# Altium footprint library Udemy_Library.PcbLib: 35 footprints (part 2 of 3)
Each footprint in its own frame and in the unit in brackets; x right, y up, seen from the top. Pads: shape width x height; smd on the part's side, far side on the other; paste and mask are expansions set on the pad; w line width, h text height; cw(c..) or ccw(c..) is an arc to the next point about the centre after c.
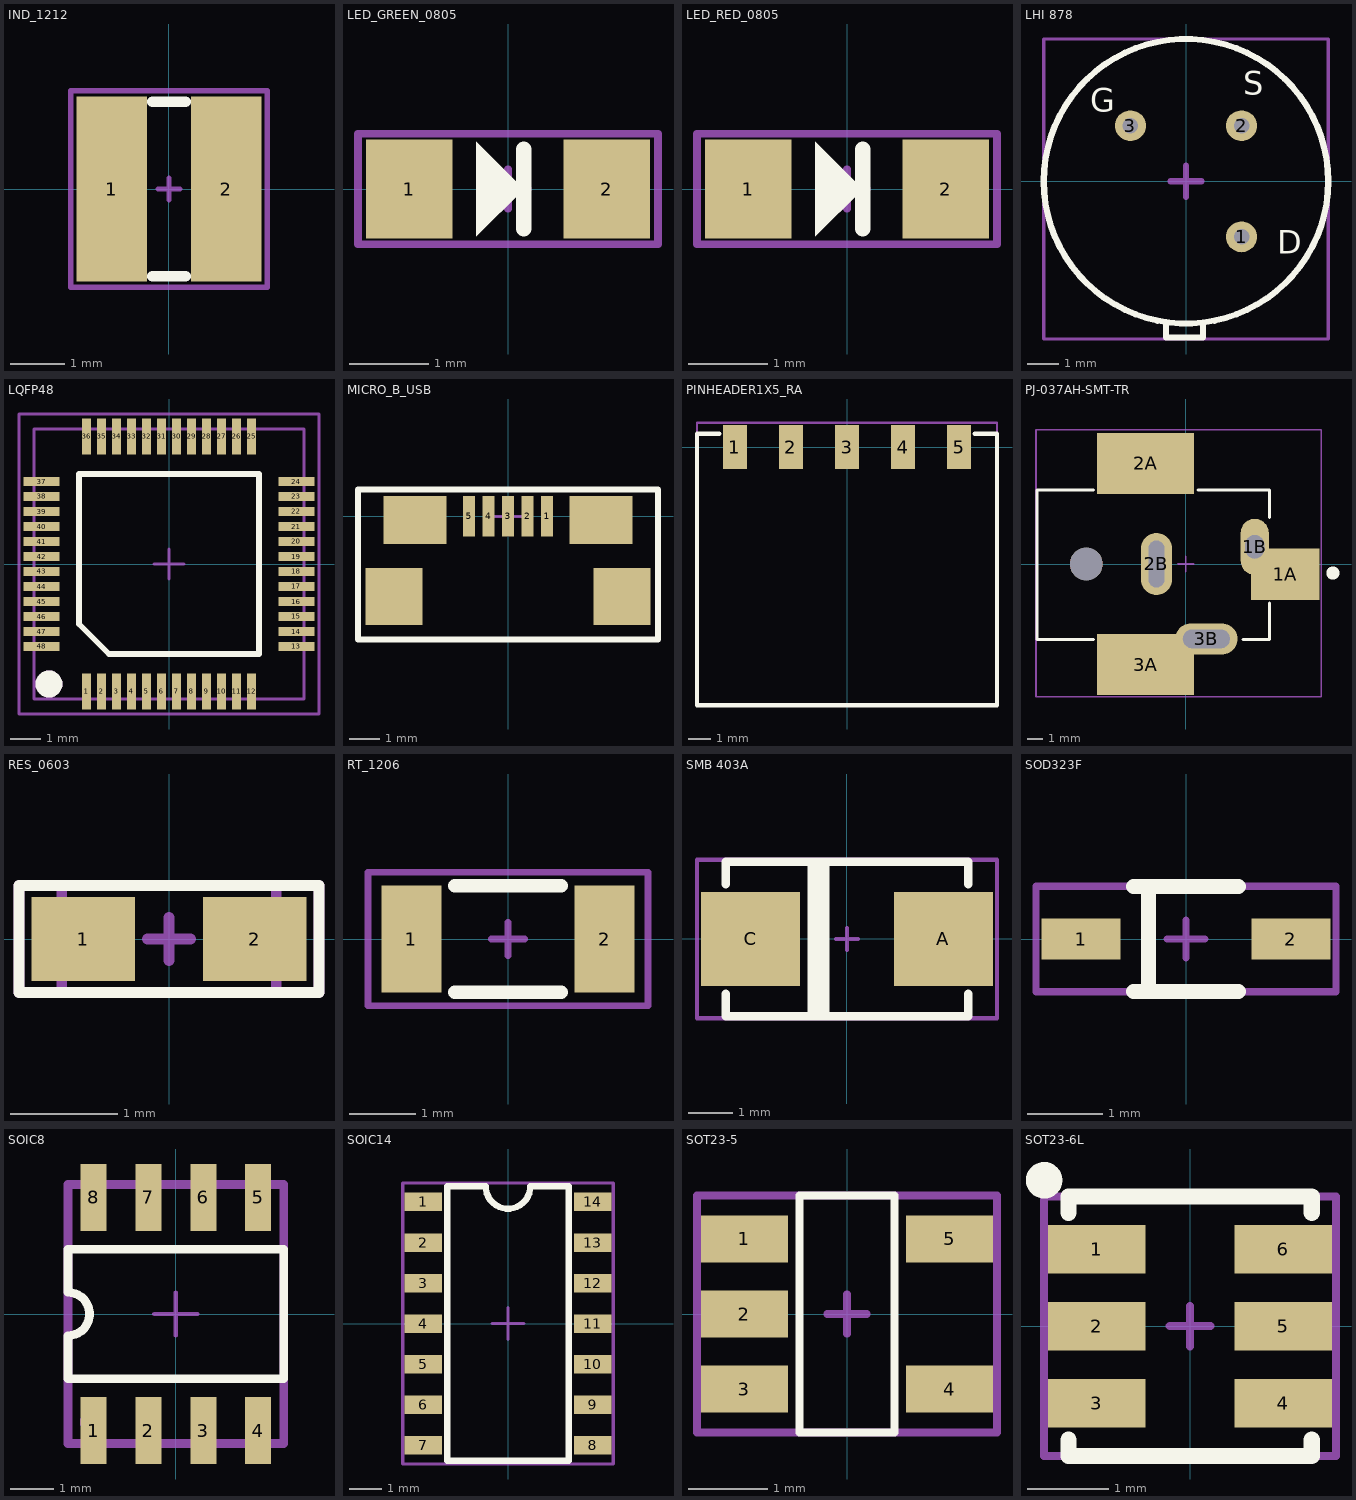
[diagram p1: the footprints below, top view; thin cyan lines are the x and y axes]

## IND_1212 [mm]
pads (2):
  rect 1.3x3.4 smd mask+0.05: 1(-1.05,0) 2(1.05,0)
Top Overlay:
  lines w0.2: -0.3,-1.6 0.3,-1.6 ; -0.3,1.6 0.3,1.6
Top Component Center:
  lines w0.1: -0.2,0 0.2,0 ; 0,-0.2 0,0.2 ; -1.8,-1.8 1.8,-1.8 1.8,1.8 -1.8,1.8 -1.8,-1.8
Top Designator:
  lines w0.1: -1.8,-1.8 -1.8,1.8 1.8,1.8 1.8,-1.8 -1.8,-1.8
  text ".Designator" at 0.233,-1.1 h0.5
3D body "78438335010_WE-MAIA-3015_rev1.stp": height 1.2, standoff 0, extent -1.5,-1.5 1.5,1.5

## LED_GREEN_0805 [mm]
pads (2):
  rect 1.1x1.25 smd mask+0.05: 1(-1.25,0) 2(1.25,0)
Top Overlay:
  region: 0.2,0 -0.4,0.6 -0.4,-0.6
  lines w0.2: 0.2,-0.5 0.2,0.5
Top Component Center:
  lines w0.1: -0.25,0 0.25,0 ; 0,-0.25 0,0.25 ; -1.9,-0.7 -1.9,0.7 1.9,0.7 1.9,-0.7 -1.9,-0.7
Top Designator:
  lines w0.1: -1.9,-0.7 -1.9,0.7 1.9,0.7 1.9,-0.7 -1.9,-0.7
  text ".Designator" at -0.6,-0.233 h0.5
3D body "SMD_0805LED_GREEN.STEP": height 1.1, standoff 0, extent -1.01,-0.625 1.01,0.625

## LED_RED_0805 [mm]
pads (2):
  rect 1.1x1.25 smd mask+0.05: 1(-1.25,0) 2(1.25,0)
Top Overlay:
  region: 0.2,0 -0.4,0.6 -0.4,-0.6
  lines w0.2: 0.2,-0.5 0.2,0.5
Top Component Center:
  lines w0.1: -0.25,0 0.25,0 ; 0,-0.25 0,0.25 ; -1.9,-0.7 1.9,-0.7 1.9,0.7 -1.9,0.7 -1.9,-0.7
Top Designator:
  lines w0.1: -1.9,-0.7 1.9,-0.7 1.9,0.7 -1.9,0.7 -1.9,-0.7
  text ".Designator" at -0.6,-0.233 h0.5
3D body "SMD_0805LED_RED.STEP": height 1.1, standoff 0, extent -1.01,-0.625 1.01,0.625

## LHI 878 [mm]
pads (3):
  round 1 hole 0.5 mask+0.05: 1(1.796,-1.796) 2(1.796,1.796) 3(-1.796,1.796)
Top Overlay:
  circle w0.2: c0,0 r4.6
  lines w0.2: -0.65,-4.55 -0.65,-5.05 0.55,-5.05 0.55,-4.6
  text "D" at 2.95,-2.35 h0.75
  text "S" at 1.85,2.8 h0.75
  text "G" at -3.1,2.25 h0.75
Top Component Center:
  lines w0.1: -4.6,-5.1 4.6,-5.1 4.6,4.6 -4.6,4.6 -4.6,-5.1
  lines w0.2: -0.5,0 0.5,0 ; 0,-0.5 0,0.5
Top Designator:
  lines w0.1: -4.6,-5.1 4.6,-5.1 4.6,4.6 -4.6,4.6 -4.6,-5.1
  text ".Designator" at -1.5,-0.35 h0.75
3D body "LHI878.step": height 4.55, standoff -2.45, extent -4.6,-5.029 4.6,4.6

## LQFP48 [mm] "7mm x 7 mm"
pads (48):
  rect 0.3x1.2 smd mask+0.05: 1(-2.75,-4.25) 2(-2.25,-4.25) 3(-1.75,-4.25) 4(-1.25,-4.25) 5(-0.75,-4.25) 6(-0.25,-4.25) 7(0.25,-4.25) 8(0.75,-4.25) 9(1.25,-4.25) 10(1.75,-4.25) 11(2.25,-4.25) 12(2.75,-4.25) 25(2.75,4.25) 26(2.25,4.25) 27(1.75,4.25) 28(1.25,4.25) 29(0.75,4.25) 30(0.25,4.25) 31(-0.25,4.25) 32(-0.75,4.25) 33(-1.25,4.25) 34(-1.75,4.25) 35(-2.25,4.25) 36(-2.75,4.25)
  rect 1.2x0.3 smd mask+0.05: 13(4.25,-2.75) 14(4.25,-2.25) 15(4.25,-1.75) 16(4.25,-1.25) 17(4.25,-0.75) 18(4.25,-0.25) 19(4.25,0.25) 20(4.25,0.75) 21(4.25,1.25) 22(4.25,1.75) 23(4.25,2.25) 24(4.25,2.75) 37(-4.25,2.75) 38(-4.25,2.25) 39(-4.25,1.75) 40(-4.25,1.25) 41(-4.25,0.75) 42(-4.25,0.25) 43(-4.25,-0.25) 44(-4.25,-0.75) 45(-4.25,-1.25) 46(-4.25,-1.75) 47(-4.25,-2.25) 48(-4.25,-2.75)
Top Overlay:
  circle w0.5: c-4,-4 r0.2
  lines w0.2: -3,-2 -3,3 3,3 3,-3 -2,-3 -3,-2
Top 3D Body:
  circle w0.5: c-4,-4 r0.2
  lines w0.1: -4.5,-4.5 4.5,-4.5 4.5,4.5 -4.5,4.5 -4.5,-4.5
Top Component Center:
  lines w0.1: -0.5,0 0.5,0 ; 0,-0.5 0,0.5 ; -5,-5 5,-5 5,5 -5,5 -5,-5
Top Designator:
  lines w0.1: -5,-5 5,-5 5,5 -5,5 -5,-5
  text ".Designator" at -1.868,-0.508 h1.52
3D body "LQFP48-7x7mm.step": height 1.6, standoff 0, extent -4.497,-4.497 4.497,4.497

## MICRO_B_USB [mm]
pads (9):
  rect 0.4x1.35 smd mask+0.05: 1(1.3,0) 2(0.65,0) 3(0,0) 4(-0.65,0) 5(-1.3,0)
  rect 1.9x1.9 smd mask+0.05: ""(-3.8,-2.675) ""(3.8,-2.675)
  rect 2.1x1.6 smd mask+0.05: ""(-3.1,-0.125) ""(3.1,-0.125)
Top Overlay:
  lines w0.2: -5,-4.1 -5,0.9 5,0.9 5,-4.1 -5,-4.1
Top Component Center:
  lines w0.1: -0.5,0 0.5,0 ; 0,-0.5 0,0.5 ; -5,-4.1 5,-4.1 5,0.9 -5,0.9 -5,-4.1
Top Designator:
  lines w0.1: -5,-4.1 5,-4.1 5,0.9 -5,0.9 -5,-4.1
  text ".Designator" at -1.6,-1.433 h0.5
3D body "USB_10118192-0001LF.stp": height 2.79, standoff -0.22, extent -3.956,-5.361 3.956,0.3

## PINHEADER1X5_RA [mm]
pads (5):
  rect 1.1x2 smd mask+0.05: 1(-5.08,0) 2(-2.54,0) 3(0,0) 4(2.54,0) 5(5.08,0)
Top Overlay:
  lines w0.2: -5.8,0.6 -6.8,0.6 -6.8,-11.7 6.8,-11.7 6.8,0.6 5.8,0.6
Top Component Center:
  lines w0.1: -0.5,0 0.5,0 ; 0,-0.5 0,0.5 ; -6.8,-11.7 6.8,-11.7 6.8,1.1 -6.8,1.1 -6.8,-11.7
Top Designator:
  lines w0.1: -6.8,-11.7 6.8,-11.7 6.8,1.1 -6.8,1.1 -6.8,-11.7
  text ".Designator" at -2.3,-3.467 h1
3D body "SAMTEC-SMH-105-02-X-S.step": height 2.41, standoff -0.01, extent -6.604,-11.509 6.604,0.429

## PJ-037AH-SMT-TR [mm]
pads (7):
  rect 4.4x3.3 smd: 1A(6.375,-0.65)
  oval 1.8x3.6 hole 1.2 slot 1.5 at 90 deg: 1B(4.425,1.1)
  rect 6.2x3.9 smd: 2A(-2.575,6.45) 3A(-2.575,-6.45)
  oval 2x4 hole 1 slot 3 at 90 deg: 2B(-1.875,0)
  oval 4x2 hole 1.2 slot 3 at 0 deg: 3B(1.325,-4.8)
  round 2.1 hole 2.1 unplated: ""(-6.375,0)
Top Overlay:
  circle w0.45: c9.435,-0.58 r0.2
  lines w0.2: -5.925,-4.85 -9.525,-4.85 -9.525,4.75 -5.925,4.75 ; 0.775,4.75 5.375,4.75 5.375,3 ; 3.675,-4.85 5.375,-4.85 5.375,-2.5
Top Component Center:
  lines w0.1: -0.5,0 0.5,0 ; 0,-0.5 0,0.5 ; -9.6,-8.5 -9.6,8.6 -4.9,8.6 8.7,8.6 8.7,-8.5 -9.6,-8.5
Top Designator:
  lines w0.1: -9.6,-8.5 -9.6,8.6 -4.9,8.6 8.7,8.6 8.7,-8.5 -9.6,-8.5
  text ".Designator" at 1.342,-2.55 h1
3D body "CUI_DEVICES_PJ-037BH-SMT-TR.step": height 11.1, standoff -3.3, extent -9.325,-7.75 7.775,7.45

## RES_0603 [mil]
pads (2):
  rect 38x31 smd mask+1.97: 1(-31.5,0) 2(31.5,0)
Top Overlay:
  lines w3.94: -55.12,-19.68 55.12,-19.68 55.12,19.68 -55.12,19.68 -55.12,-19.68
Top 3D Body:
  lines w3.94: -39.37,-19.68 -39.37,19.68 39.37,19.68 39.37,-19.68 -39.37,-19.68
Top Component Center:
  lines w3.94: -7.87,0 7.87,0 ; 0,-7.87 0,7.87 ; -55.12,-19.68 55.12,-19.68 55.12,19.68 -55.12,19.68 -55.12,-19.68
Top Designator:
  lines w3.94: -55.12,-19.68 55.12,-19.68 55.12,19.68 -55.12,19.68 -55.12,-19.68
  text ".Designator" at -31.5,-6.56 h15.75
3D body "RES0603.STEP": height 16.89, standoff -0.83, extent -38.92,-18.88 38.92,19.68

## RT_1206 [mm]
pads (2):
  rect 0.9x1.6 smd mask+0.05: 1(-1.45,0) 2(1.45,0)
Top Overlay:
  lines w0.2: -0.8,-0.8 0.8,-0.8 ; -0.8,0.8 0.8,0.8
Top Component Center:
  lines w0.1: -0.25,0 0.25,0 ; 0,-0.25 0,0.25 ; -2.1,-1 -2.1,1 2.1,1 2.1,-1 -2.1,-1
Top Designator:
  lines w0.1: -2.1,-1 2.1,-1 2.1,1 -2.1,1 -2.1,-1
  text ".Designator" at -1.05,-0.283 h0.8
3D body "res1206r.STEP": height 0.55, standoff 0, extent -1.984,-0.938 1.984,0.938

## SMB 403A [mm]
pads (2):
  rect 2.25x2.12 smd mask+0.05: A(2.185,0) C(-2.185,0)
Top Overlay:
  rectangle: -0.9,-1.8 -0.4,1.8
  lines w0.2: -2.75,-1.25 -2.75,-1.75 2.75,-1.75 2.75,-1.25 ; -2.75,1.25 -2.75,1.75 2.75,1.75 2.75,1.25
Top Component Center:
  lines w0.1: -0.25,0 0.25,0 ; 0,-0.25 0,0.25 ; -3.4,-1.8 3.4,-1.8 3.4,1.8 -2.8,1.8 -3.4,1.8 -3.4,-1.8
Top Designator:
  lines w0.1: -3.4,-1.8 3.4,-1.8 3.4,1.8 -2.8,1.8 -3.4,1.8 -3.4,-1.8
  text ".Designator" at -1.35,-0.333 h0.8
3D body "1SMB5919BT3G.step": height 2.44, standoff -0.03, extent -2.72,-1.78 2.72,1.78

## SOD323F [mm]
pads (2):
  rect 1.05x0.55 smd mask+0.05: 1(-1.4,0) 2(1.4,0)
Top Overlay:
  lines w0.2: -0.7,-0.7 0.7,-0.7 ; -0.7,0.7 0.7,0.7 ; -0.5,-0.7 -0.5,0.7
Top Component Center:
  lines w0.1: -0.25,0 0.25,0 ; 0,-0.25 0,0.25 ; -2,-0.7 2,-0.7 2,0.7 -2,0.7 -2,-0.7
Top Designator:
  lines w0.1: -2,-0.7 2,-0.7 2,0.7 -2,0.7 -2,-0.7
  text ".Designator" at -0.9,-0.233 h0.5
3D body "SOD-323FL_ONS.step": height 0.89, standoff 0, extent -1.35,-0.673 1.35,0.673

## SOIC8 [mm]
pads (8):
  rect 0.6x1.55 smd mask+0.07: 1(-1.905,-2.7) 2(-0.635,-2.7) 3(0.635,-2.7) 4(1.905,-2.7) 5(1.905,2.7) 6(0.635,2.7) 7(-0.635,2.7) 8(-1.905,2.7)
Top Overlay:
  lines w0.2: -2.5,-1.5 2.5,-1.5 2.5,1.5 -2.5,1.5 -2.5,0.5 cw(c-2.5,0) -2.5,-0.5 -2.5,-1.5
Top 3D Body:
  circle w0.25: c-2,-2.5 r0.1
  lines w0.2: -2.5,-3 -2.5,3 2.5,3 2.5,-3 -2.5,-3
Top Component Center:
  lines w0.1: -0.5,0 0.5,0 ; 0,-0.5 0,0.5 ; -2.5,-3 -2.5,3 2.5,3 2.5,-3 -2.5,-3
Top Designator:
  lines w0.1: -2.5,-3 -2.5,3 2.5,3 2.5,-3 -2.5,-3
  text ".Designator" at 0.467,-1.3 h1
3D body "LM2675MX-12_NOPB.step": height 1.75, standoff 0, extent -2.45,-3 2.45,3

## SOIC14 [mm]
pads (14):
  rect 1.18x0.58 smd mask+0.05: 1(-2.66,3.81) 2(-2.66,2.54) 3(-2.66,1.27) 4(-2.66,0) 5(-2.66,-1.27) 6(-2.66,-2.54) 7(-2.66,-3.81) 8(2.66,-3.81) 9(2.66,-2.54) 10(2.66,-1.27) 11(2.66,0) 12(2.66,1.27) 13(2.66,2.54) 14(2.66,3.81)
Top Overlay:
  lines w0.2: -1.9,-4.3 1.9,-4.3 1.9,4.3 0.7,4.3 cw(c0,4.3) -0.7,4.3 -1.9,4.3 -1.9,-4.3
Top Component Center:
  lines w0.1: -0.5,0 0.5,0 ; 0,-0.5 0,0.5 ; -3.3,-4.4 3.3,-4.4 3.3,4.4 -3.3,4.4 -3.3,-4.4
Top Designator:
  lines w0.1: -3.3,-4.4 3.3,-4.4 3.3,4.4 -3.3,4.4 -3.3,-4.4
  text ".Designator" at -1.3,-0.467 h1
3D body "NCS36000DRG.step": height 1.83, standoff 0.03, extent -3,-4.28 3,4.28

## SOT23-5 [mm]
pads (5):
  rect 1.1x0.6 smd mask+0.05: 1(-1.3,0.95) 2(-1.3,0) 3(-1.3,-0.95) 4(1.3,-0.95) 5(1.3,0.95)
Top Overlay:
  lines w0.1: -0.6,-1.5 -0.6,1.5 0.6,1.5 0.6,-1.5 -0.6,-1.5
Top Component Center:
  lines w0.1: -0.25,0 0.25,0 ; 0,-0.25 0,0.25 ; -1.9,-1.5 -1.9,1.5 1.9,1.5 1.9,-1.5 -1.9,-1.5
Top Designator:
  lines w0.1: -1.9,-1.5 -1.9,1.5 1.9,1.5 1.9,-1.5 -1.9,-1.5
  text ".Designator" at 0.35,-1.1 h0.75
3D body "OPA314AIDBVR.step": height 1.45, standoff 0, extent -1.4,-1.45 1.4,1.45

## SOT23-6L [mm]
pads (6):
  rect 1.2x0.6 smd mask+0.05: 1(-1.15,0.95) 2(-1.15,0) 3(-1.15,-0.95) 4(1.15,-0.95) 5(1.15,0) 6(1.15,0.95)
Top Overlay:
  circle w0.25: c-1.8,1.8 r0.1
  lines w0.2: -1.5,-1.4 -1.5,-1.6 1.5,-1.6 1.5,-1.4 ; -1.5,1.4 -1.5,1.6 1.5,1.6 1.5,1.4
Top Component Center:
  lines w0.1: -0.25,0 0.25,0 ; 0,-0.25 0,0.25 ; -1.8,-1.6 -1.8,1.6 1.8,1.6 1.8,-1.6 -1.8,-1.6
Top Designator:
  lines w0.1: -1.8,-1.6 1.8,-1.6 1.8,1.6 -1.8,1.6 -1.8,-1.6
  text ".Designator" at 0.367,-1.1 h0.7
3D body "USBLC6-2SC6.step": height 1.45, standoff 0, extent -1.4,-1.462 1.4,1.462